# Altium schematic symbol library EL-sense_Battery.SchLib: 1 symbol
Pins are listed as number, name and electrical type; pins without a type are passive.

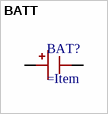
[diagram p0: symbol BATT]

## BATT
designator BAT?
pins: 1, 2